# Altium footprint library Common Power.PcbLib: 15 footprints
Each footprint in its own frame and in the unit in brackets; x right, y up, seen from the top. Pads: shape width x height; smd on the part's side, far side on the other; paste and mask are expansions set on the pad; w line width, h text height; cw(c..) or ccw(c..) is an arc to the next point about the centre after c.
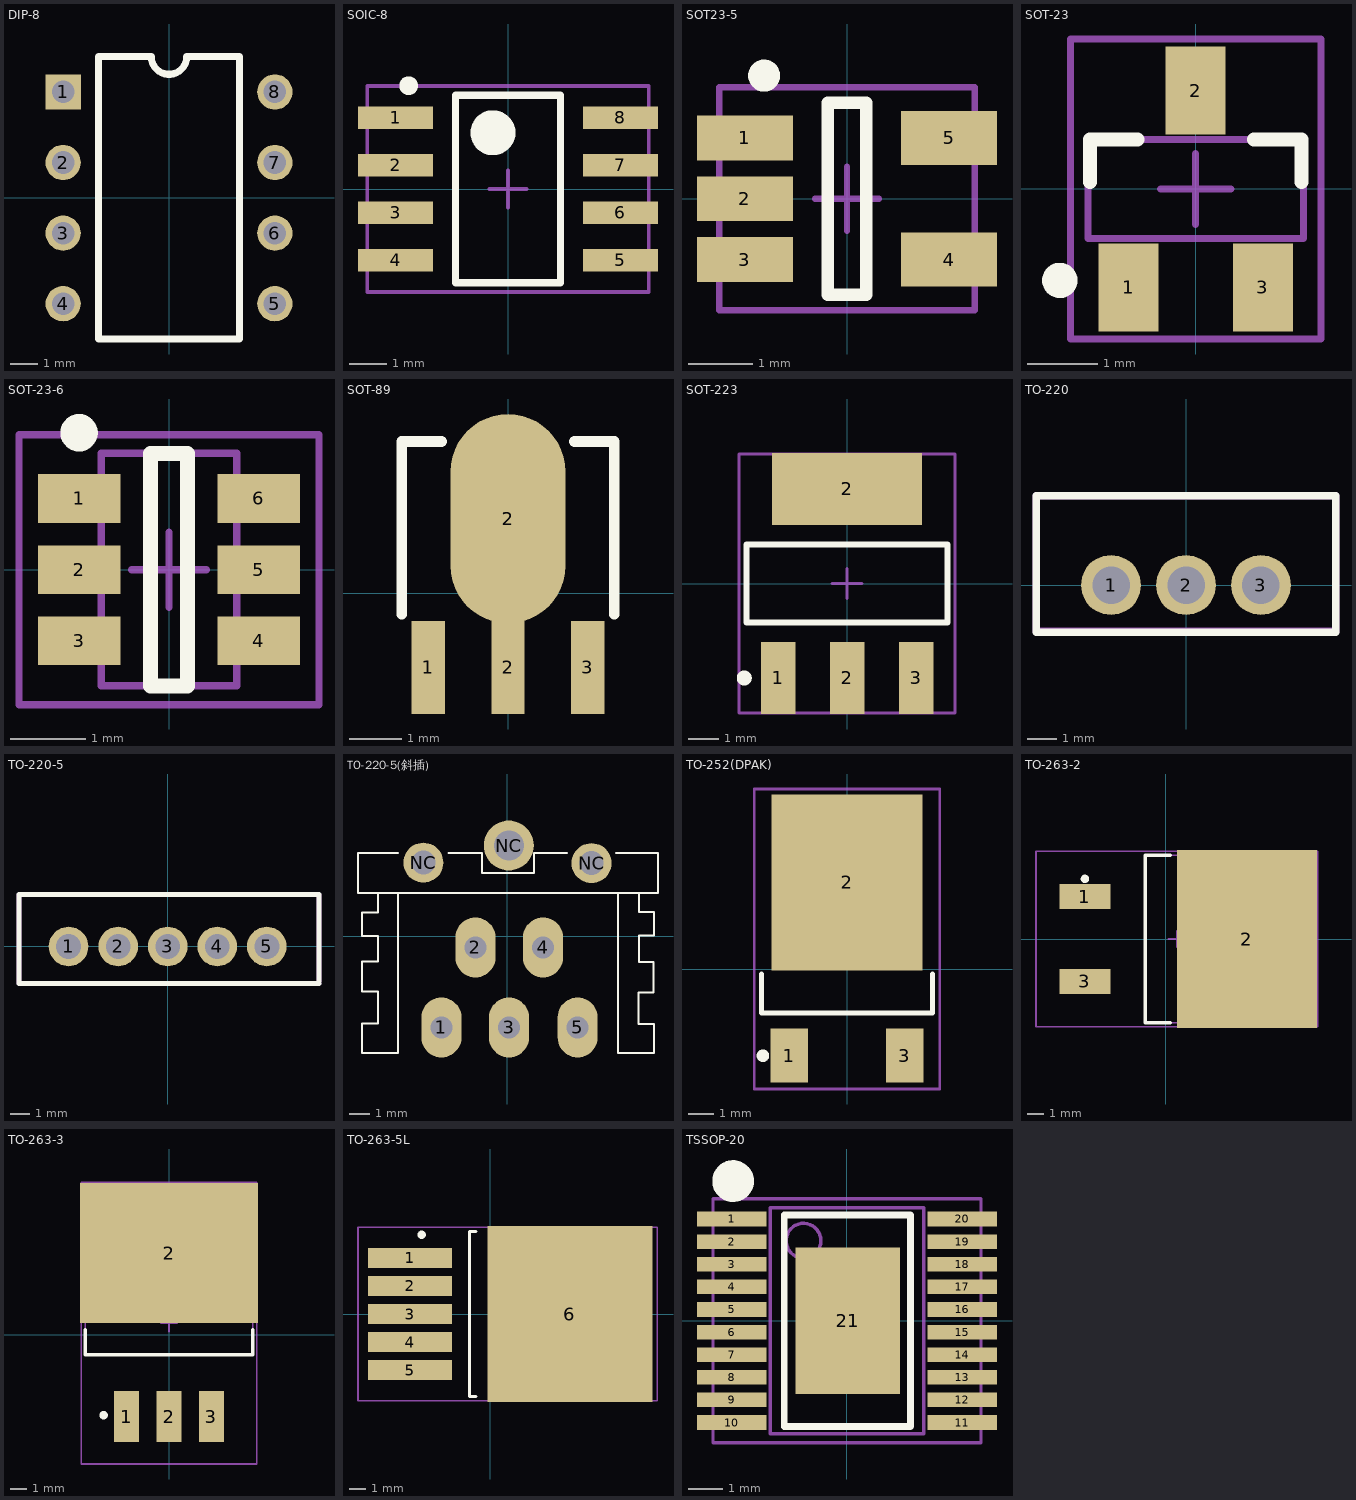
[diagram p0: the footprints below, top view; thin cyan lines are the x and y axes]

## DIP-8 [mil]
pads (8):
  rect 50x50 hole 32: 1(-150,150)
  round 50 hole 32: 2(-150,50) 3(-150,-50) 4(-150,-150) 5(150,-150) 6(150,-50) 7(150,50) 8(150,150)
Top Overlay:
  lines w10: -100,-200 -100,200 -25,200 ccw(c0,200) 25,200 100,200 100,-200 -100,-200
3D body: height 188.19, standoff -109.84, extent -154.84,-213.92 155,216

## SOIC-8 [mm]
pads (8):
  rect 2x0.6 smd: 1(-3,1.905) 2(-3,0.635) 3(-3,-0.635) 4(-3,-1.905) 5(3,-1.905) 6(3,-0.635) 7(3,0.635) 8(3,1.905)
Top Overlay:
  circle w0.25: c-2.65,2.755 r0.125
  circle w0.6: c-0.4,1.5 r0.3
  lines w0.2: -1.4,-2.5 -1.4,2.5 1.4,2.5 1.4,-2.5 -1.4,-2.5
Mechanical 15:
  lines w0.1: -0.5,0 0.5,0 ; 0,-0.5 0,0.5 ; -3.75,-2.75 -3.75,2.75 3.75,2.75 3.75,-2.75 -3.75,-2.75
3D body: height 1.51, standoff 0, extent -3.05,-2.438 3.05,2.462

## SOT23-5 [mm]
pads (5):
  rect 1.5x0.7 smd: 1(-1.595,0.95) 2(-1.595,0) 3(-1.595,-0.95)
  rect 1.5x0.85 smd: 4(1.595,-0.95) 5(1.595,0.95)
Top Overlay:
  circle w0.25: c-1.295,1.925 r0.125
  lines w0.2: -0.3,-1.5 -0.3,1.5 0.3,1.5 0.3,-1.5 -0.3,-1.5
Mechanical 15:
  lines w0.1: -0.5,0 0.5,0 ; 0,-0.5 0,0.5 ; -2,-1.745 2,-1.745 2,1.745 -2,1.745 -2,-1.745
3D body: height 1.09, standoff -0.01, extent -1.395,-1.46 1.406,1.44

## SOT-23 [mm]
pads (3):
  rect 0.85x1.25 smd: 1(-0.95,-1.395) 2(0,1.395) 3(0.95,-1.395)
Top Overlay:
  circle w0.25: c-1.925,-1.295 r0.125
  lines w0.2: -1.5,0.1 -1.5,0.7 -0.825,0.7 ; 0.825,0.7 1.5,0.7 1.5,0.1
Mechanical 13:
  lines w0.1: -1.525,-0.7 1.525,-0.7 1.525,0.7 -1.525,0.7 -1.525,-0.7
Mechanical 15:
  lines w0.1: -0.5,0 0.5,0 ; 0,-0.5 0,0.5 ; -1.775,-2.125 1.775,-2.125 1.775,2.125 -1.775,2.125 -1.775,-2.125
3D body: height 1.04, standoff -0.03, extent -1.447,-1.124 1.473,1.174

## SOT-23-6 [mm]
pads (6):
  rect 1.1x0.65 smd: 1(-1.2,0.95) 2(-1.2,0) 3(-1.2,-0.95) 4(1.2,-0.95) 5(1.2,0) 6(1.2,0.95)
Top Overlay:
  circle w0.25: c-1.2,1.825 r0.125
  lines w0.2: -0.25,-1.55 -0.25,1.55 0.25,1.55 0.25,-1.55 -0.25,-1.55
Mechanical 13:
  lines w0.1: -0.9,-1.55 0.9,-1.55 0.9,1.55 -0.9,1.55 -0.9,-1.55
Mechanical 15:
  lines w0.1: -0.5,0 0.5,0 ; 0,-0.5 0,0.5 ; -2,-1.8 2,-1.8 2,1.8 -2,1.8 -2,-1.8
3D body: height 1.08, standoff -0.01, extent -1.308,-1.397 1.118,1.397

## SOT-89 [mil]
pads (4):
  rect 25x70 smd: 1(-60,-56) 2(0,-56) 3(60,-56)
  oval 86.61x157.48 smd: 2(0,56)
Top Overlay:
  lines w8: -80,-16 -80,114 -50,114 ; 50,114 80,114 80,-16
3D body: height 61.23, standoff 0.6, extent -89.16,-68 88,99.32

## SOT-223 [mm]
pads (4):
  rect 1.15x2.4 smd: 1(-2.3,-3.15) 2(0,-3.15) 3(2.3,-3.15)
  rect 5x2.4 smd: 2(0,3.15)
Top Overlay:
  circle w0.25: c-3.425,-3.15 r0.125
  lines w0.2: -3.35,-1.3 3.35,-1.3 3.35,1.3 -3.35,1.3 -3.35,-1.3
Mechanical 15:
  lines w0.1: -0.5,0 0.5,0 ; 0,-0.5 0,0.5 ; -3.6,-4.325 3.6,-4.325 3.6,4.325 -3.6,4.325 -3.6,-4.325
3D body: height 2.66, standoff 0.02, extent -3.408,-3.448 3.302,3.702

## TO-220 [mil]
pads (3):
  round 80 hole 50: 1(-100,0) 2(0,0) 3(100,0)
Top Overlay:
  lines w10: -200,-63 -200,0 -200,119 200,119 200,0 200,-63 -200,-63
Mechanical 15:
  lines w10: -200,-62 200,-62 200,119 -200,119 -200,-62
3D body: height 789.33, standoff -375.67, extent -205,-61.5 205,123.5

## TO-220-5 [mil]
pads (5):
  round 80 hole 50: 1(-200,0) 2(-100,0) 3(0,0) 4(100,0) 5(200,0)
Top Overlay:
  lines w10: 305,-74.8 -300,-74.8 -300,0 -300,105.12 305.12,105.12 ; 305,-70 305,105
Mechanical 15:
  lines w10: -300,-75 305,-75 305,105 -300,105 -300,-75
3D body: height 354.33, standoff 314.96, extent 176,-9 222,7
3D body: height 354.33, standoff 314.96, extent 76,-9 122,7
3D body: height 314.96, standoff -82.68, extent 184,-9 214,7
3D body: height 314.96, standoff -82.68, extent 84,-9 114,7
3D body: height 314.96, standoff -82.68, extent -16,-9 14,7
3D body: height 925.2, standoff 688.98, extent -301,50 305,105
3D body: height 688.98, standoff 354.33, extent -300,-75 305,105
3D body: height 314.96, standoff -82.68, extent -216,-9 -186,7
3D body: height 354.33, standoff 314.96, extent -224,-9 -178,7
3D body: height 314.96, standoff -82.68, extent -115,-8 -85,8
3D body: height 354.33, standoff 314.96, extent -123,-8 -77,8
3D body: height 314.96, standoff -82.68, extent -16,-9 14,7
3D body: height 354.33, standoff 314.96, extent -24,-9 22,7

## TO-220-5(斜插) [mm]
pads (8):
  oval 2x3 hole 1.1: 1(-3.302,-4.549) 2(-1.602,-0.549) 3(0.076,-4.549) 4(1.778,-0.549) 5(3.505,-4.549)
  round 2 hole 1.2: NC(-4.204,3.696) NC(4.204,3.67)
  round 2.5 hole 1.5: NC(0.064,4.549)
Top Overlay:
  lines w0.1: -7.474,2.963 -7.474,2.179 ; -6.464,2.154 -6.464,1.206 -7.277,1.206 -7.277,0.013 -6.464,0.013 -6.464,-1.257 -7.277,-1.257 -7.277,-2.756 -6.464,-2.756 -6.464,-4.356 -7.277,-4.356 -7.277,-5.821 -5.474,-5.821 -5.474,2.179 ; -5.475,4.179 -7.474,4.179 -7.474,2.179 ; -4.674,4.179 -4.674,3.188 -4.666,3.179 -3.674,3.179 -3.674,4.179 ; -2.959,4.178 -1.283,4.178 ; -1.274,4.179 -1.274,3.179 1.326,3.179 ; 1.326,3.188 1.326,4.178 2.984,4.178 ; 3.726,4.179 3.726,3.188 4.718,3.188 4.726,3.179 4.726,4.179 ; 5.422,4.179 7.526,4.179 7.526,2.179 -7.474,2.179 ; 5.524,2.179 5.524,-5.821 7.328,-5.821 7.328,-4.381 6.54,-4.381 6.54,-2.807 7.302,-2.807 7.302,-1.283 6.566,-1.283 6.566,0.038 7.328,0.038 7.328,1.232 6.566,1.232 6.566,2.154
3D body: height 2, standoff -4, extent -0.707,3.798 0.787,5.295
3D body: height 8, standoff 3.5, extent 3.124,-0.787 3.886,-0.381
3D body: height 8, standoff 3.5, extent -0.305,-0.762 0.457,-0.356
3D body: height 8, standoff 3.5, extent -3.683,-0.787 -2.921,-0.381
3D body: height 3.5, standoff 3, extent -0.305,-4.75 0.457,-0.356
3D body: height 3.5, standoff 3, extent 3.124,-4.775 3.886,-0.381
3D body: height 3.5, standoff 3, extent -3.683,-4.775 -2.921,-0.381
3D body: height 18.5, standoff 15.5, extent -1.422,1.648 1.566,4.648
3D body: height 25, standoff 0, extent 5.524,-5.829 7.353,2.197
3D body: height 25, standoff 0, extent -7.302,-5.829 -5.474,2.222
3D body: height 0, standoff -4, extent 3.746,3.213 4.743,4.211
3D body: height 0, standoff -4, extent -4.686,3.188 -3.69,4.186
3D body: height 25, standoff 0, extent -7.455,2.172 7.506,4.178
3D body: height 9, standoff 8, extent 2.921,-0.787 4.089,-0.381
3D body: height 9, standoff 8, extent -0.508,-0.762 0.66,-0.356
3D body: height 3.5, standoff -2.1, extent -0.305,-4.75 0.457,-4.343
3D body: height 9, standoff 8, extent -3.912,-0.787 -2.743,-0.381
3D body: height 3.5, standoff -2.1, extent -3.683,-4.775 -2.921,-4.369
3D body: height 17.5, standoff 9, extent -5.486,-2.845 5.524,2.21
3D body: height 23.5, standoff 17.5, extent -5.512,0.686 5.537,2.197
3D body: height 3.5, standoff -2.1, extent 3.124,-4.775 3.886,-4.369
3D body: height 8, standoff -2.1, extent -1.981,-0.762 -1.219,-0.356
3D body: height 8, standoff -2.1, extent 1.397,-0.787 2.159,-0.381
3D body: height 9, standoff 8, extent -2.184,-0.762 -1.016,-0.356
3D body: height 9, standoff 8, extent 1.194,-0.787 2.362,-0.381

## TO-252(DPAK) [mm]
pads (3):
  rect 1.5x2.15 smd: 1(-2.3,-3.45) 3(2.3,-3.45)
  rect 6x7 smd: 2(0,3.45)
Top Overlay:
  circle w0.25: c-3.35,-3.45 r0.125
  lines w0.2: -3.4,-0.2 -3.4,-1.75 3.4,-1.75 3.4,-0.2
Mechanical 15:
  lines w0.1: -0.5,0.95 0.5,0.95 ; 0,0.45 0,1.45 ; -3.7,-4.775 3.7,-4.775 3.7,7.173 -3.7,7.173 -3.7,-4.775
3D body: height 2.39, standoff -0.02, extent -3.238,-3.953 3.302,5.985

## TO-263-2 [mm]
pads (3):
  rect 3.05x1.5 smd: 1(-4.845,2.54) 3(-4.845,-2.54)
  rect 8.38x10.66 smd: 2(4.845,0)
Top Overlay:
  circle w0.25: c-4.845,3.598 r0.125
  lines w0.2: 0.255,-5 -1.245,-5 -1.245,5 0.255,5
Mechanical 13:
  lines w0.1: -1.245,-5 -1.245,5 7.411,5 7.411,-5 -1.245,-5
Mechanical 15:
  lines w0.1: 0.155,0 1.155,0 ; 0.655,-0.5 0.655,0.5 ; -7.77,-5.25 -7.77,5.25 9.08,5.25 9.08,-5.25 -7.77,-5.25
3D body: height 4.7, standoff 0.6, extent -1.245,-5 7.411,5
3D body: height 1.4, standoff 1, extent -4.181,-2.921 -1.453,-2.159
3D body: height 0.4, standoff 0, extent -4.943,-2.921 -4.181,-2.159
3D body: height 1.4, standoff 0, extent -4.181,-2.921 -4.054,-2.159
3D body: height 1.4, standoff 1, extent -1.466,-3.073 -1.245,-2.057
3D body: height 1.4, standoff 1, extent -1.466,2.007 -1.245,3.023
3D body: height 1.4, standoff 0, extent -4.181,2.159 -4.054,2.921
3D body: height 0.4, standoff 0, extent -4.943,2.159 -4.181,2.921
3D body: height 1.4, standoff 1, extent -4.181,2.159 -1.453,2.921
3D body: height 1.4, standoff 1, extent -1.441,-0.635 -1.22,0.381
3D body: height 1.4, standoff 1, extent -3.155,-0.483 -1.428,0.279
3D body: height 1.4, standoff 1, extent 7.411,-4.039 8.58,4.039

## TO-263-3 [mm]
pads (4):
  rect 1.5x3.05 smd: 1(-2.54,-4.894) 2(0,-4.894) 3(2.54,-4.894)
  rect 10.66x8.38 smd: 2(0,4.894)
Top Overlay:
  circle w0.25: c-3.91,-4.801 r0.125
  lines w0.2: -5,0.304 -5,-1.196 5,-1.196 5,0.304
Mechanical 13:
  lines w0.1: -5,-1.196 5,-1.196 5,7.461 -5,7.461 -5,-1.196
Mechanical 15:
  lines w0.1: -0.5,0.704 0.5,0.704 ; 0,0.204 0,1.204 ; -5.25,-7.721 5.25,-7.721 5.25,9.129 -5.25,9.129 -5.25,-7.721
3D body: height 1.4, standoff 1, extent -0.483,-1.417 0.533,-1.196
3D body: height 1.4, standoff 0, extent -0.381,-4.132 0.381,-4.005
3D body: height 0.4, standoff 0, extent -0.381,-4.894 0.381,-4.132
3D body: height 1.4, standoff 1, extent -0.381,-4.132 0.381,-1.404
3D body: height 4.7, standoff 0.6, extent -5,-1.196 5,7.461
3D body: height 1.4, standoff 1, extent 2.159,-4.132 2.921,-1.404
3D body: height 0.4, standoff 0, extent 2.159,-4.894 2.921,-4.132
3D body: height 1.4, standoff 0, extent 2.159,-4.132 2.921,-4.005
3D body: height 1.4, standoff 1, extent 2.057,-1.417 3.073,-1.196
3D body: height 1.4, standoff 1, extent -3.023,-1.417 -2.007,-1.196
3D body: height 1.4, standoff 0, extent -2.921,-4.132 -2.159,-4.005
3D body: height 0.4, standoff 0, extent -2.921,-4.894 -2.159,-4.132
3D body: height 1.4, standoff 1, extent -2.921,-4.132 -2.159,-1.404
3D body: height 1.4, standoff 1, extent -4.039,7.461 4.039,8.629

## TO-263-5L [mm]
pads (6):
  rect 5.08x1.2 smd: 1(-4.845,3.4) 2(-4.845,1.7) 3(-4.845,0) 4(-4.845,-1.7) 5(-4.845,-3.4)
  rect 10x10.66 smd: 6(4.845,0)
Top Overlay:
  circle w0.25: c-4.138,4.801 r0.125
  lines w0.2: -0.864,-5 -1.245,-5 -1.245,5 -0.864,5
Mechanical 15:
  lines w0.1: 0.155,0 1.155,0 ; 0.655,-0.5 0.655,0.5 ; -7.995,-5.25 10.129,-5.25 10.129,5.25 -7.995,5.25 -7.995,-5.25
3D body: height 4.58, standoff 0.02, extent -4.34,-5.055 9.674,5.105

## TSSOP-20 [mm]
pads (21):
  rect 2x0.42 smd: 1(-3.31,2.925) 2(-3.31,2.275) 3(-3.31,1.625) 4(-3.31,0.975) 5(-3.31,0.325) 6(-3.31,-0.325) 7(-3.31,-0.975) 8(-3.31,-1.625) 9(-3.31,-2.275) 10(-3.31,-2.925) 11(3.31,-2.925) 12(3.31,-2.275) 13(3.31,-1.625) 14(3.31,-0.975) 15(3.31,-0.325) 16(3.31,0.325) 17(3.31,0.975) 18(3.31,1.625) 19(3.31,2.275) 20(3.31,2.925)
  rect 3x4.2 smd: 21(0.025,0)
Top Overlay:
  circle w0.25: c-3.31,3.75 r0.125
  circle w0.6: c-3.272,4.013 r0.3
  lines w0.2: -1.803,-3.04 -1.803,3.04 1.829,3.04 1.829,-3.04 -1.803,-3.04
Mechanical 13:
  circle w0.1: c-1.25,2.3 r0.5
  lines w0.1: -2.2,-3.25 -2.2,3.25 2.2,3.25 2.2,-3.25 -2.2,-3.25
Mechanical 15:
  lines w0.1: -0.5,0 0.5,0 ; 0,-0.5 0,0.5 ; -3.85,-3.5 -3.85,3.5 3.85,3.5 3.85,-3.5 -3.85,-3.5
3D body: height 1.1, standoff -0.09, extent -3.099,-3.302 3.181,3.198